# EAGLE library part 691412120007MB (library Wurth_Connectors_WR-TBL Spring Clamp)
WR-TBL Serie 412MB - 3.50 mm Screwless 45° Entry - 2.1 mm 2 Wires KIND PROPERTIES Pitch 3.5 mm MATERIAL PROPERTIES Insulator Material PA66 Insulator Flammability Rating UL94 V-0 Contact Material Phosphor Bronze Contact Plating Tin GENERAL INFORMATION Operating Temperature -40 up to +105 °C Compliance RoHS ELECTRICAL PROPERTIES IR cULus 6 A IR VDE 2 A Working Voltage [cULus] 300 V (AC) Working Voltage [VDE] 250 V (AC) Withstanding Voltage [cULus] 1600 V (AC) Withstanding Voltage [VDE] 2500 V (AC) Contact Resistance [cULus] 20 mΩ Contact Resistance [VDE] 20 mΩ Mechanical Properties Wire Strip Length 7.5 up to 8.5 (mm) Wire Properties Solid Wire Section (AWG) 14 to 20 (AWG) Solid Wire Section (Metric) 2.08 to 0.518 (mm²) Stranded Wire Section (AWG) 14 to 20 (AWG) Stranded Wire Section (Metric) 2.08 to 0.518 (mm²) CERTIFICATION cULus Approval E315414 VDE Approval 40036145 Packaging Properties Packaging Box <https://www.we-online.com/catalog/media/o33325v209%20S534_WR-TBL_6914121200xxMB_a_4C.jpg> Details see: https://www.we-online.com/catalog/en/TBL_3_50_412MB_SCREWLESS_45-DEGREE_ENTRY_2_1MM2_WIRES_6914121200XXMB/ Updated by Ella Wu 2019-12-31 2019(C) Wurth Elektronik
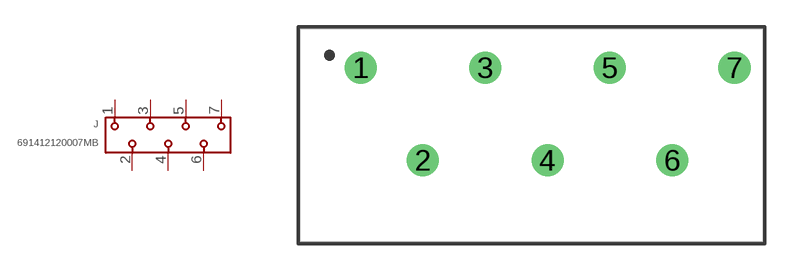
[diagram p3: symbol with the pads of 691412120007MB; footprint 691412120007MB]

Designator prefix J

## 691412120007MB (DATASHEET-URL: https://www.we-online.com/redexpert/spec/691412120007MB?ae; IR-UL: 6A; IR-VDE: 2A; MOUNT: THT; PART-NUMBER: 691412120007MB; PINS: 7; PITCH: 3.5mm; TYPE: 45°; VALUE: 691412120007MB; WIRE: 14 to 20 (AWG) 2.08 to 0.518 (mm²); WORKING-VOLTAGE-UL: 300V (AC); WORKING-VOLTAGE-VDE: 250V (AC))  [691412120007MB]
1  1  pas
2  2  pas
3  3  pas
4  4  pas
5  5  pas
6  6  pas
7  7  pas

## Footprint 691412120007MB (pad centres in mm)
WR-TBL Serie 412MB - 3.50 mm Screwless 45° Entry - 2.1 mm 2 Wires Max Height = 12.8mm , Pitch 3.5mm , 7pins
drill 1.2: 1 -10.5,2.6; 2 -7,-2.6; 3 -3.5,2.6; 4 0,-2.6; 5 3.5,2.6; 6 7,-2.6; 7 10.5,2.6